# EAGLE library part WE-TVS-HS_SOT563_82400152 (library Eagle_WE-TVS (rev26a))
WE-TVS TVS Diode – High Speed Series Characteristics Low clamping voltage Sturdy design Very low capacitance Flow Thru Design for a simple layout Rail to Rail protection Epoxy flame resistant UL94-V0 RoHS, REACH and free of halogens Applications Very fast data lines USB 2.0 Ethernet PoE VGA Sim Cards Keypads HS = High Speed <https://www.we-online.com/components/media/o14883v209%20Family_WE-TVS_HIGHSPEED.jpg> Details see: www.we-online.com/en/components/products/WE-TVS-HS <www.we-online.com/catalog/WE-CAIR/?utm_source=eagle_model&utm_medium=description_link&utm_campaign=eisos_eagle> Updated by Ella Wu 2019-07-12 2019 (C) Wurth Elektronik
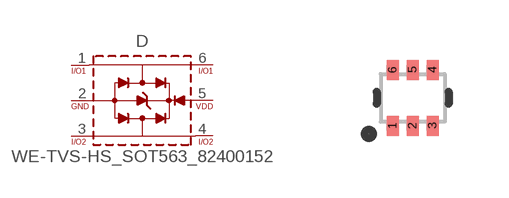
[diagram p14: symbol with the pads of WE-TVS_SOT563; footprint WE-TVS_SOT563]

Designator prefix D

## WE-TVS-HS_SOT563_82400152 (CCH-TYP: 2pF; CHANNELS: 2+1; DATASHEET-URL: https://www.we-online.com/redexpert/spec/82400152?ae; HEIGHT: 0.55mm; IPEAK: 6A; LENGTH: 1.6mm; MOUNT: SMT; PART-NUMBER: 82400152; POLARITY: Unidirectional; SIZE: SOT563; VALUE: 82400152; VBR-MIN: 6V; VCH-CLAMP-ESD: 10V; VCH-MAX: 5V; VESD-CONTACT: 8kV; WIDTH: 1.6mm)  [WE-TVS_SOT563]
1  I/O1  pas
2  GND  pas
3  I/O2  pas
4  I/O4  pas
5  VDD  pas
6  I/O3  pas

## Footprint WE-TVS_SOT563 (pad centres in mm)
WE-TVS TVS Diode Size: SOT563 L X W X H = 1.6mm X1.6mm X 0.55mm
smd 0.3 x 0.5: 1 -0.5,-0.7; 2 0,-0.7; 3 0.5,-0.7; 4 0.5,0.7; 5 0,0.7; 6 -0.5,0.7